# EAGLE library part 4068D (library EW_IC_74_Logic)
8-input Nand gate. Category: Gates Manufacturer: Generic
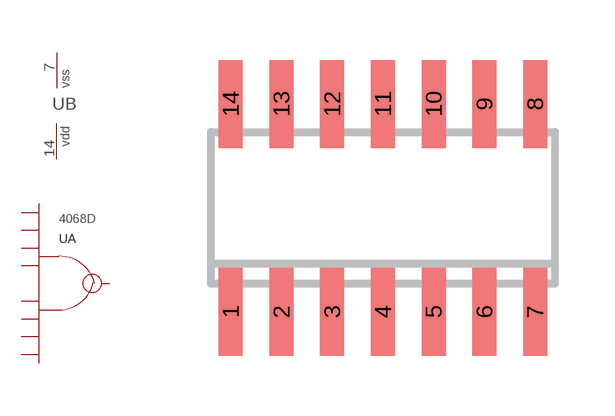
[diagram p351: symbol with the pads of SO14; footprint SO14]

Designator prefix U; gates A=NAND_8 B=PWRN_1

## 4068D  [SO14]
2  A:A  pwr
3  A:B  pwr
4  A:C  pwr
5  A:D  pwr
7  B:VSS  pwr
9  A:E  pwr
10  A:F  pwr
11  A:G  pwr
12  A:H  pwr
13  A:Y  pwr
14  B:VDD  pwr

## Footprint SO14 (pad centres in mm)
SMALL OUTLINE INTEGRATED CIRCUIT body 3.9 mm/JEDEC MS-012AC
smd 0.6 x 2.2: 1 -3.81,-2.6; 2 -2.54,-2.6; 3 -1.27,-2.6; 4 0,-2.6; 5 1.27,-2.6; 6 2.54,-2.6; 7 3.81,-2.6; 8 3.81,2.6; 9 2.54,2.6; 10 1.27,2.6; 11 0,2.6; 12 -1.27,2.6; 13 -2.54,2.6; 14 -3.81,2.6